# Altium schematic symbol library SHT31-DIS-B2.5KS.Schlib: 1 symbol
Pins are listed as number, name and electrical type; pins without a type are passive.

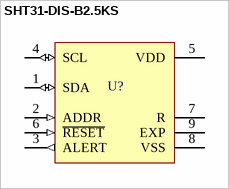
[diagram p0: symbol SHT31-DIS-B2.5KS]

## SHT31-DIS-B2.5KS
designator U?
footprint SHT3x
pins: 1 SDA (io), 2 ADDR (in), 3 ALERT (out), 4 SCL (io), 5 VDD (power), 6 ~{RESET} (in), 7 R, 8 VSS (power), 9 EXP